# Altium schematic symbol library RF Connectors.SchLib: 3 symbols
Pins are listed as number, name and electrical type; pins without a type are passive.

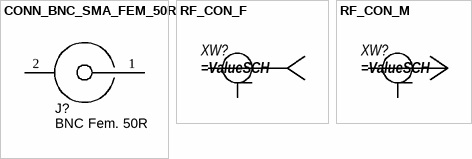
[diagram p0: symbols CONN_BNC_SMA_FEM_50R to RF_CON_M]

## CONN_BNC_SMA_FEM_50R
designator J?, comment BNC Fem. 50R
Connector BNC 50 Ohm right-angle PCB mounted; Manufacturer 1: TE Connectivity; Manufacturer Part Number 1: 5413515-9; Impedance: 50 Ohm; Ratings: 9400pF; 1500V; SCDType: undef; Category: Connectors; Mounting Type: Through Hole; Supplier 1: Digi-Key; Supplier Part Number 1: A32418-ND; ComponentLink1URL: http://www.te.com/commerce/DocumentDelivery/DDEController?Action=srchrtrv&DocNm=5413515&DocType=Customer+Drawing&DocLang=English; ComponentLink1Description: TE Datasheet
footprint CONN_BNC_RA_PCB (BNC connector, right angle PCB-mounted)
pins: 1, 2

## RF_CON_F
designator XW?
pins: 1, 2

## RF_CON_M
designator XW?
pins: 1, 2